# Altium schematic symbol library ic-interface.SchLib: 45 symbols
Pins are listed as number, name and electrical type; pins without a type are passive.

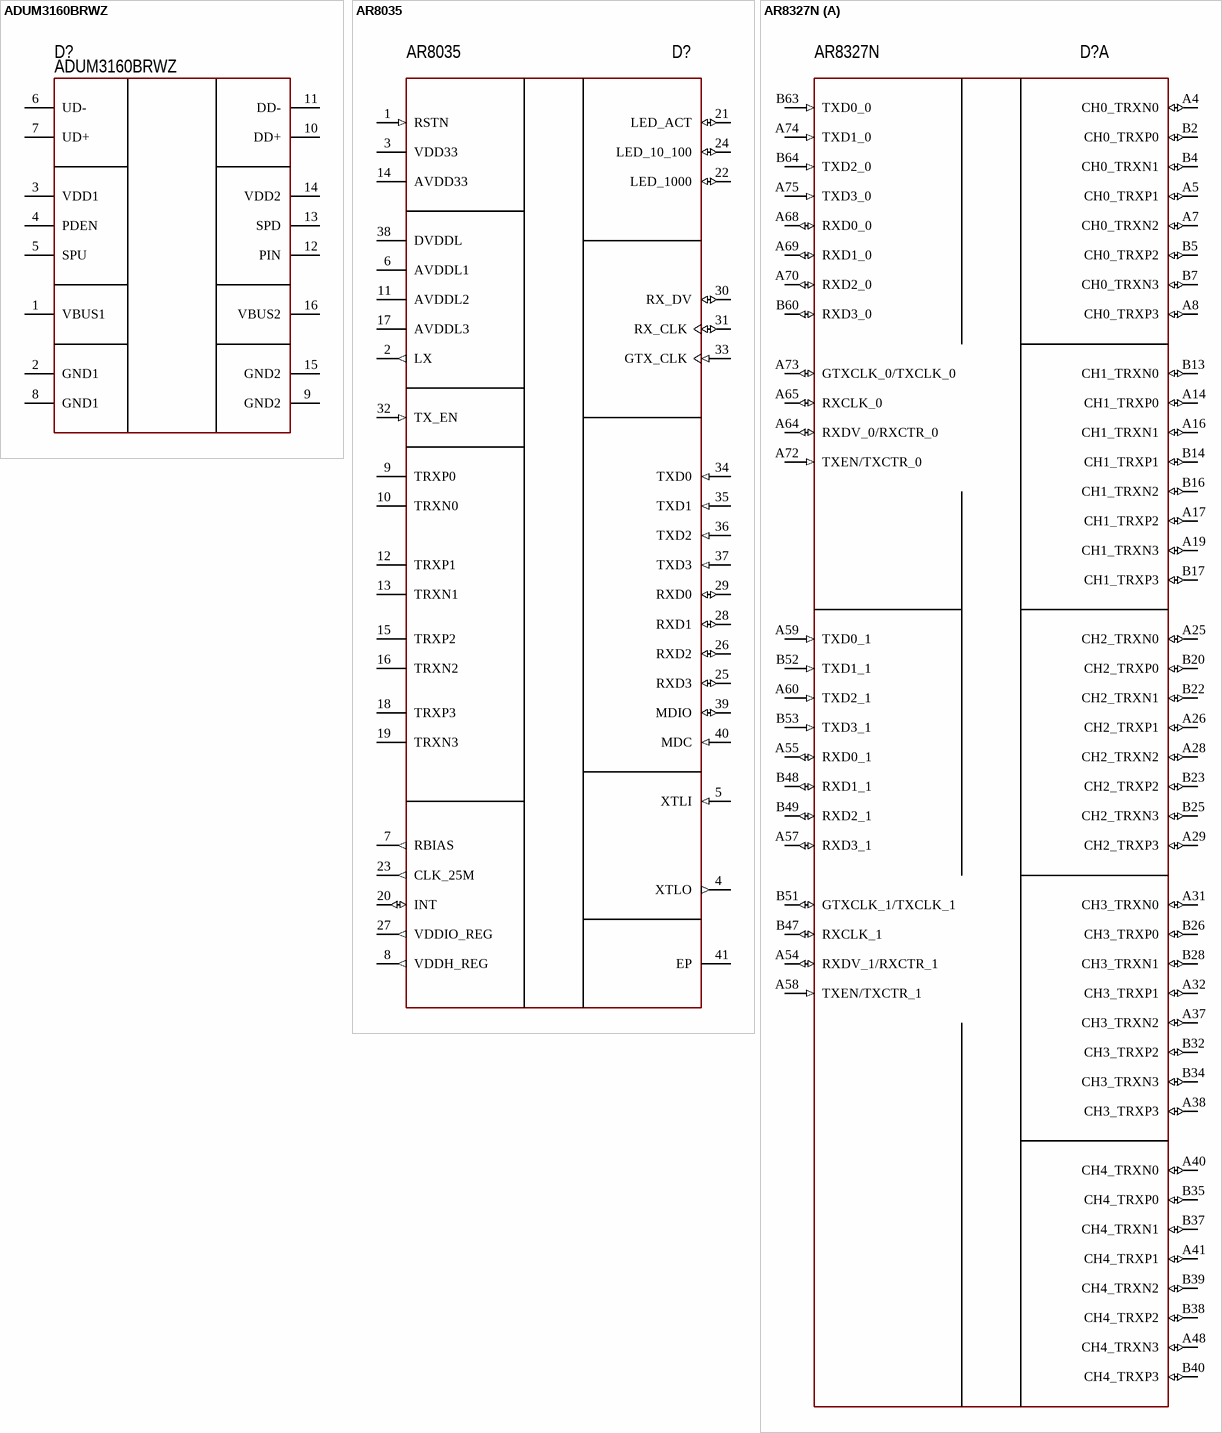
[diagram p0: symbols ADUM3160BRWZ to AR8327N]

## ADUM3160BRWZ
designator D?  PartNumber: ADUM3160BRWZ
USB isolator; Manufacturer: Texas Instruments; ValueManufacturerPartNumber: IC USB isolator, 12Mbps, 2500Vrms, 3...5.5V, -40...+125°C, 16-TSSOP; Supply: 3...5.5V; DataRate: 12Mbps; Isolation: 2500Vrms; HelpURL: https://www.digikey.com/product-detail/en/analog-devices-inc/ADUM3160BRWZ-RL/ADUM3160BRWZ-RLCT-ND/3897186; Package: 16-TSSOP; ComponentType: IC USB isolator; Temperature: -40...+125°C
footprint 16-TSSOP (pitch 1.27 mm)
pins: 1 VBUS1, 2 GND1, 3 VDD1, 4 PDEN, 5 SPU, 6 UD-, 7 UD+, 8 GND1, 9 GND2, 10 DD+, 11 DD-, 12 PIN, 13 SPD, 14 VDD2, 15 GND2, 16 VBUS2

## AR8035
designator D?  PartNumber: AR8035
Ethernet; Manufacturer: Atheros; ValueManufacturerPartNumber: IC ethernet transceiver, 10/100/1000 Mbps, MII, RMII, 3...3.6V, -40...+85°C, 40-QFN; Supply: 3...3.6V; DataRate: 10/100/1000 Mbps; Protocol: MII, RMII; HelpURL: https://datasheet.octopart.com/AR8035-AL1B-Qualcomm-datasheet-13029019.pdf; Package: 40-QFN; ComponentType: IC ethernet transceiver; Temperature: -40...+85°C
footprint 40-QFN (5x5) (5x5 mm, pitch 0.4 mm, power pad)
pins: 1 RSTN (in), 2 LX (out), 3 VDD33 (power), 4 XTLO (out), 5 XTLI (in), 6 AVDDL1 (power), 7 RBIAS (out), 8 VDDH_REG (out), 9 TRXP0, 10 TRXN0, 11 AVDDL2 (power), 12 TRXP1, 13 TRXN1, 14 AVDD33 (power), 15 TRXP2, 16 TRXN2, 17 AVDDL3 (power), 18 TRXP3, 19 TRXN3, 20 INT (io), 21 LED_ACT (io), 22 LED_1000 (io), 23 CLK_25M (out), 24 LED_10_100 (io), 25 RXD3 (io), 26 RXD2 (io), 27 VDDIO_REG (out), 28 RXD1 (io), 29 RXD0 (io), 30 RX_DV (io), 31 RX_CLK (io), 32 TX_EN (in), 33 GTX_CLK (in), 34 TXD0 (in), 35 TXD1 (in), 36 TXD2 (in), 37 TXD3 (in), 38 DVDDL (power), 39 MDIO (io), 40 MDC (in), 41 EP (power)

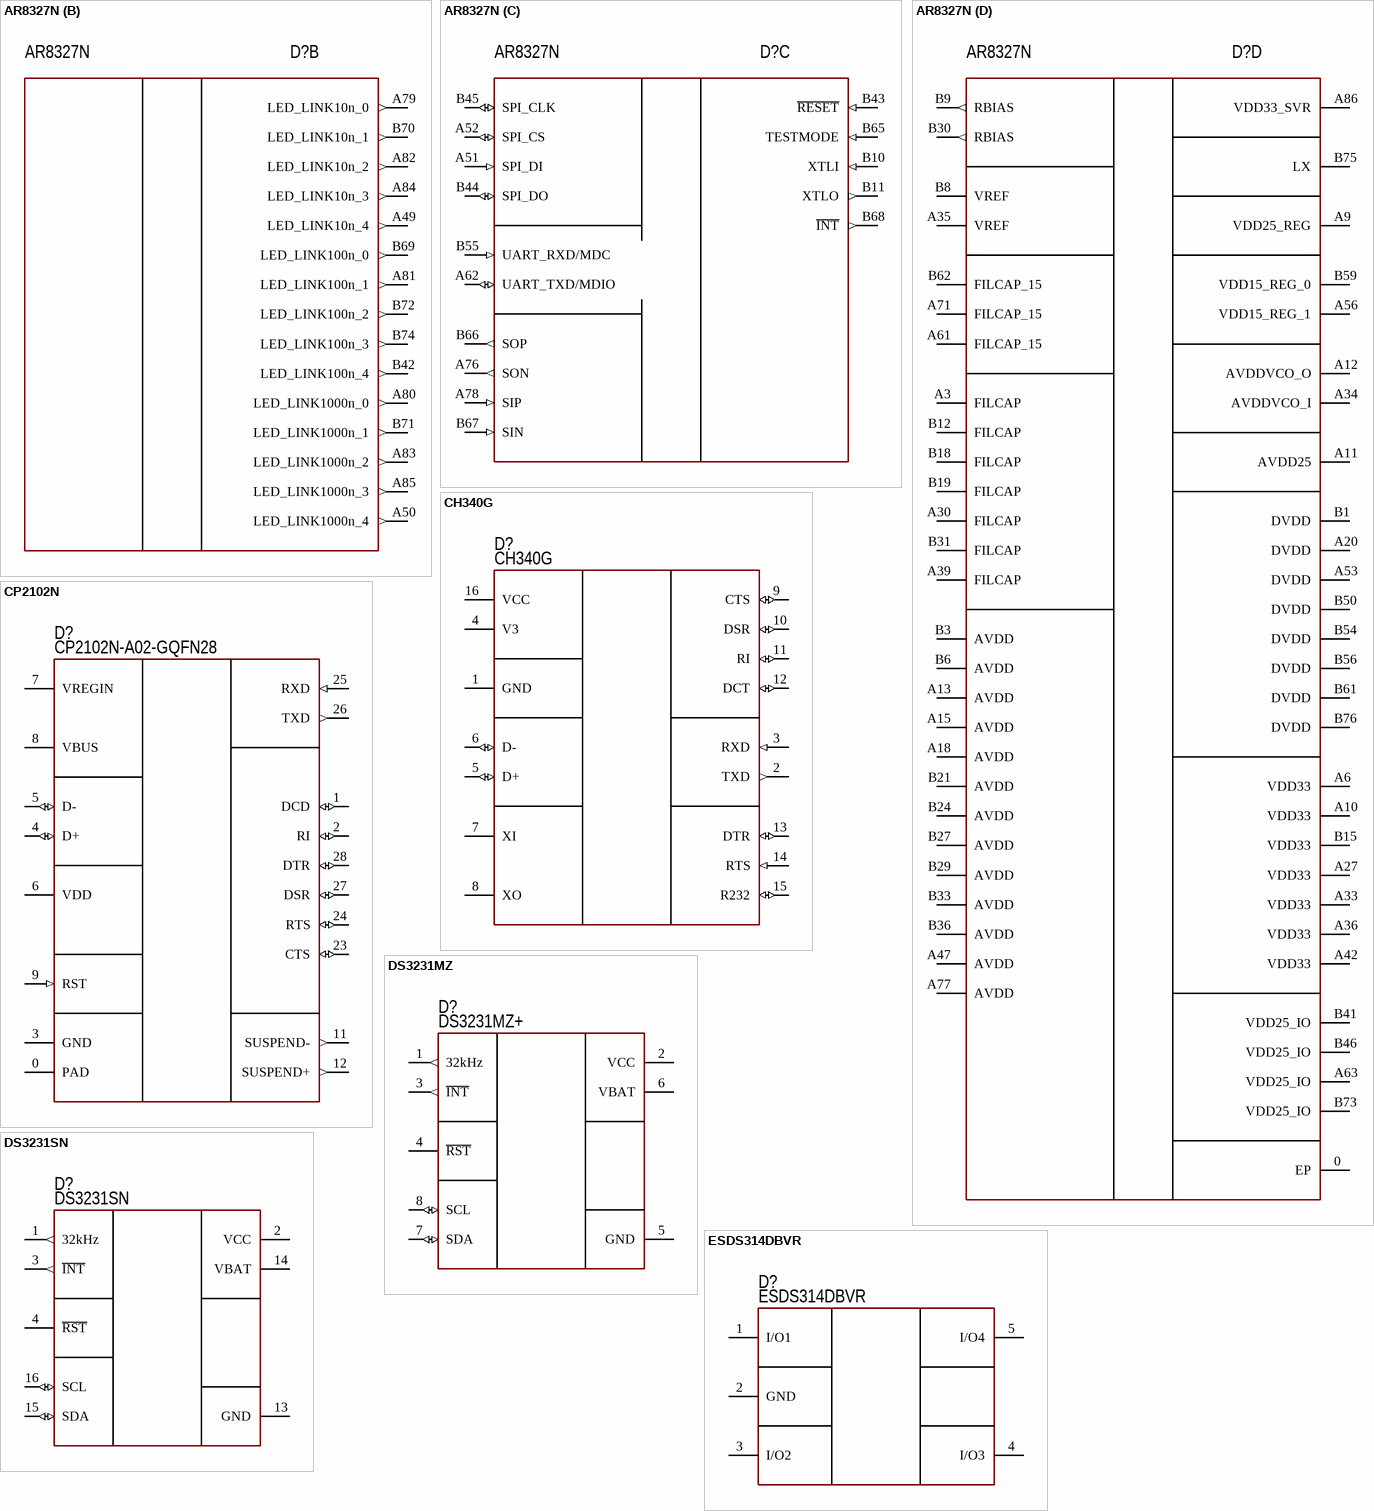
[diagram p1: symbols AR8327N to ESDS314DBVR]

## AR8327N
designator D?  PartNumber: AR8327N
Ethernet; Manufacturer: Atheros; ValueManufacturerPartNumber: IC ethernet transceiver, 10/100/1000 Mbps, MII, RMII, 3...3.6V, -40...+85°C, 148-DRQFN; Supply: 3...3.6V; DataRate: 10/100/1000 Mbps; Protocol: MII, RMII; Package: 148-DRQFN; ComponentType: IC ethernet transceiver; Temperature: -40...+85°C
footprint 148-DRQFN (pitch 0.5 mm)
part A pins: A4 CH0_TRXN0 (io), A5 CH0_TRXP1 (io), A7 CH0_TRXN2 (io), A8 CH0_TRXP3 (io), A14 CH1_TRXP0 (io), A16 CH1_TRXN1 (io), A17 CH1_TRXP2 (io), A19 CH1_TRXN3 (io), A25 CH2_TRXN0 (io), A26 CH2_TRXP1 (io), A28 CH2_TRXN2 (io), A29 CH2_TRXP3 (io), A31 CH3_TRXN0 (io), A32 CH3_TRXP1 (io), A37 CH3_TRXN2 (io), A38 CH3_TRXP3 (io), A40 CH4_TRXN0 (io), A41 CH4_TRXP1 (io), A48 CH4_TRXN3 (io), A54 RXDV_1/RXCTR_1 (io), A55 RXD0_1 (io), A57 RXD3_1 (io), A58 TXEN/TXCTR_1 (in), A59 TXD0_1 (in), A60 TXD2_1 (in), A64 RXDV_0/RXCTR_0 (io), A65 RXCLK_0 (io), A68 RXD0_0 (io), A69 RXD1_0 (io), A70 RXD2_0 (io), A72 TXEN/TXCTR_0  (in), A73 GTXCLK_0/TXCLK_0 (io), A74 TXD1_0 (in), A75 TXD3_0 (in), B2 CH0_TRXP0 (io), B4 CH0_TRXN1 (io), B5 CH0_TRXP2 (io), B7 CH0_TRXN3 (io), B13 CH1_TRXN0 (io), B14 CH1_TRXP1 (io), B16 CH1_TRXN2 (io), B17 CH1_TRXP3 (io), B20 CH2_TRXP0 (io), B22 CH2_TRXN1 (io), B23 CH2_TRXP2 (io), B25 CH2_TRXN3 (io), B26 CH3_TRXP0 (io), B28 CH3_TRXN1 (io), B32 CH3_TRXP2 (io), B34 CH3_TRXN3 (io), B35 CH4_TRXP0 (io), B37 CH4_TRXN1 (io), B38 CH4_TRXP2 (io), B39 CH4_TRXN2 (io), B40 CH4_TRXP3 (io), B47 RXCLK_1 (io), B48 RXD1_1 (io), B49 RXD2_1 (io), B51 GTXCLK_1/TXCLK_1 (io), B52 TXD1_1 (in), B53 TXD3_1 (in), B60 RXD3_0 (io), B63 TXD0_0 (in), B64 TXD2_0 (in)
part B pins: A49 LED_LINK10n_4 (out), A50 LED_LINK1000n_4 (out), A79 LED_LINK10n_0 (out), A80 LED_LINK1000n_0 (out), A81 LED_LINK100n_1 (out), A82 LED_LINK10n_2 (out), A83 LED_LINK1000n_2 (out), A84 LED_LINK10n_3 (out), A85 LED_LINK1000n_3 (out), B42 LED_LINK100n_4 (out), B69 LED_LINK100n_0 (out), B70 LED_LINK10n_1 (out), B71 LED_LINK1000n_1 (out), B72 LED_LINK100n_2 (out), B74 LED_LINK100n_3 (out)
part C pins: A51 SPI_DI (in), A52 SPI_CS (io), A62 UART_TXD/MDIO (io), A76 SON (out), A78 SIP (in), B10 XTLI (in), B11 XTLO (out), B43 ~{RESET} (in), B44 SPI_DO (io), B45 SPI_CLK (io), B55 UART_RXD/MDC (in), B65 TESTMODE (in), B66 SOP (out), B67 SIN (in), B68 ~{INT} (out)
part D pins: 0 EP (power), A3 FILCAP, A6 VDD33 (power), A9 VDD25_REG (power), A10 VDD33 (power), A11 AVDD25 (power), A12 AVDDVCO_O (power), A13 AVDD (power), A15 AVDD (power), A18 AVDD (power), A20 DVDD (power), A27 VDD33 (power), A30 FILCAP, A33 VDD33 (power), A34 AVDDVCO_I (power), A35 VREF, A36 VDD33 (power), A39 FILCAP, A42 VDD33 (power), A47 AVDD (power), A53 DVDD (power), A56 VDD15_REG_1 (power), A61 FILCAP_15 (power), A63 VDD25_IO (power), A71 FILCAP_15 (power), A77 AVDD (power), A86 VDD33_SVR (power), B1 DVDD (power), B3 AVDD (power), B6 AVDD (power), B8 VREF, B9 RBIAS (out), B12 FILCAP, B15 VDD33 (power), B18 FILCAP, B19 FILCAP, B21 AVDD (power), B24 AVDD (power), B27 AVDD (power), B29 AVDD (power), B30 RBIAS (out), B31 FILCAP, B33 AVDD (power), B36 AVDD (power), B41 VDD25_IO (power), B46 VDD25_IO (power), B50 DVDD (power), B54 DVDD (power), B56 DVDD (power), B59 VDD15_REG_0 (power), B61 DVDD (power), B62 FILCAP_15 (power), B73 VDD25_IO (power), B75 LX, B76 DVDD (power)

## CH340G
designator D?  PartNumber: CH340G
USB-to-UART; Manufacturer: WCH(Jiangsu Qin Heng); ValueManufacturerPartNumber: IC usb-to-uart bridge, USB2.0, 3...3.6V, -40...+85°C, 16- SOP; Supply: 3...3.6V; HelpURL: https://lcsc.com/product-detail/USB-ICs_WCH-Jiangsu-Qin-Heng-CH340G_C14267.html; Package: 16- SOP; ComponentType: IC usb-to-uart bridge; Temperature: -40...+85°C; Standard: USB2.0
footprint 16-SOP (pitch 1.27 mm)
pins: 1 GND, 2 TXD (out), 3 RXD (in), 4 V3, 5 D+ (io), 6 D- (io), 7 XI, 8 XO, 9 CTS (io), 10 DSR (io), 11 RI (io), 12 DCT (io), 13 DTR (io), 14 RTS (in), 15 R232 (io), 16 VCC (power)

## CP2102N
designator D?  PartNumber: CP2102N-A02-GQFN28
USB-to-UART; Manufacturer: Silicon Labs; ValueManufacturerPartNumber: IC usb-to-uart bridge, USB2.0, 3...3.6V, -40...+85°C, 28-VFQFN; Supply: 3...3.6V; HelpURL: https://www.digikey.com/product-detail/en/silicon-labs/CP2102N-A02-GQFN28/336-5889-ND/9863477; Package: 28-VFQFN; ComponentType: IC usb-to-uart bridge; Temperature: -40...+85°C; Standard: USB2.0
footprint 28-QFN (5x5) (5x5 mm, pitch 0.5 mm, power pad)
pins: 0 PAD, 1 DCD (io), 2 RI (io), 3 GND, 4 D+ (io), 5 D- (io), 6 VDD, 7 VREGIN, 8 VBUS, 9 RST (in), 11 SUSPEND- (out), 12 SUSPEND+ (out), 23 CTS (io), 24 RTS (io), 25 RXD (in), 26 TXD (out), 27 DSR (io), 28 DTR (io)

## DS3231MZ
designator D?  PartNumber: DS3231MZ+
Real Time Clocks; Manufacturer: Maxim; Supply: 2.3...5.5V; HelpURL: https://www.digikey.com/product-detail/en/maxim-integrated/DS3231MZ/DS3231MZ-ND/2754396; Package: 8-SOIC; ComponentType: Real Time Clocks; ValueManufacturerPartNumber: =ComponentType+', '+DataRate+', '+Isolation+', '+Supply+', '+Temperature+', '+Package; Temperature: -40...+85°C
footprint 8-SOIC (pitch 1.27 mm)
pins: 1 32kHz (out), 2 VCC, 3 ~{INT} (out), 4 ~{RST}, 5 GND, 6 VBAT, 7 SDA (io), 8 SCL (io)

## DS3231SN
designator D?  PartNumber: DS3231SN
Real Time Clocks; Manufacturer: Maxim; Supply: 2.3...5.5V; HelpURL: https://www.digikey.com/product-detail/en/maxim-integrated/DS3231SN-T-R/DS3231SN-T-RCT-ND/3894827; Package: 16-TSSOP; ComponentType: Real Time Clocks; ValueManufacturerPartNumber: =ComponentType+', '+DataRate+', '+Isolation+', '+Supply+', '+Temperature+', '+Package; Temperature: -40...+85°C
footprint 16-TSSOP (pitch 1.27 mm)
pins: 1 32kHz (out), 2 VCC, 3 ~{INT} (out), 4 ~{RST}, 13 GND, 14 VBAT, 15 SDA (io), 16 SCL (io)

## ESDS314DBVR
designator D?  PartNumber: ESDS314DBVR
ESD protection; Manufacturer: Texas Instruments; HelpURL: https://www.ti.com/lit/ds/symlink/esds312.pdf?HQS=dis-mous-null-mousermode-dsf-pf-null-wwe&ts=1699065996877&ref_url=https%253A%252F%252Feu.mouser.com%252F; Package: SOT23-5; ComponentType: ESD protection; ValueManufacturerPartNumber: =ComponentType+', '+DataRate+', '+Isolation+', '+Supply+', '+Temperature+', '+Package; Temperature: -40...+125°C
footprint SOT23-5 (pitch 0.95 mm)
pins: 1 I/O1, 2 GND (power), 3 I/O2, 4 I/O3, 5 I/O4

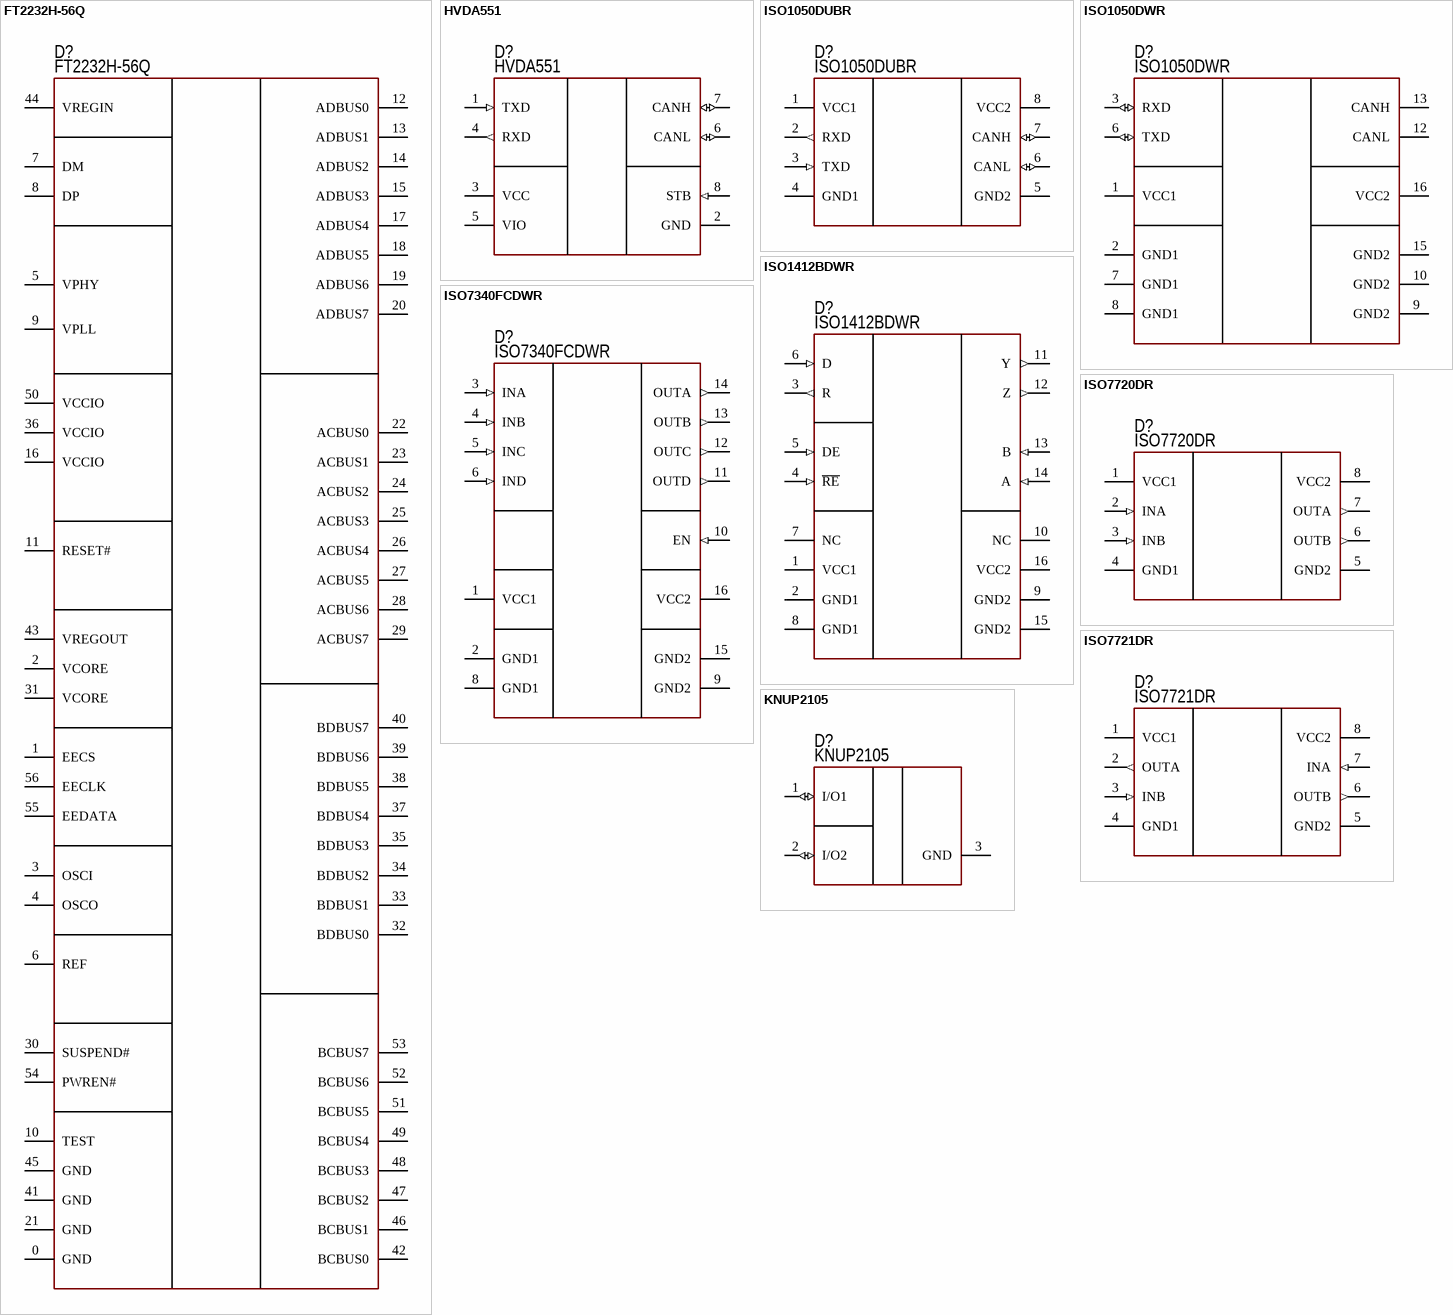
[diagram p2: symbols FT2232H-56Q to KNUP2105]

## FT2232H-56Q
designator D?  PartNumber: FT2232H-56Q
USB2.0-to-UART; Manufacturer: FTDI; ValueManufacturerPartNumber: IC usb-to-uart bridge, USB2.0, 3.3V, -40...+85°C, 56-VQFN; Supply: 3.3V; HelpURL: https://www.digikey.com/product-detail/en/texas-instruments/LMV321IDBVR/296-9567-1-ND/379849; Package: 56-VQFN; ComponentType: IC usb-to-uart bridge; Temperature: -40...+85°C; Standard: USB2.0
footprint 56-QFN (8x8 mm, pitch 0.5 mm, power pad)
pins: 0 GND, 1 EECS, 2 VCORE, 3 OSCI, 4 OSCO, 5 VPHY, 6 REF, 7 DM, 8 DP, 9 VPLL, 10 TEST, 11 RESET#, 12 ADBUS0, 13 ADBUS1, 14 ADBUS2, 15 ADBUS3, 16 VCCIO, 17 ADBUS4, 18 ADBUS5, 19 ADBUS6, 20 ADBUS7, 21 GND, 22 ACBUS0, 23 ACBUS1, 24 ACBUS2, 25 ACBUS3, 26 ACBUS4, 27 ACBUS5, 28 ACBUS6, 29 ACBUS7, 30 SUSPEND#, 31 VCORE, 32 BDBUS0, 33 BDBUS1, 34 BDBUS2, 35 BDBUS3, 36 VCCIO, 37 BDBUS4, 38 BDBUS5, 39 BDBUS6, 40 BDBUS7, 41 GND, 42 BCBUS0, 43 VREGOUT, 44 VREGIN, 45 GND, 46 BCBUS1, 47 BCBUS2, 48 BCBUS3, 49 BCBUS4, 50 VCCIO, 51 BCBUS5, 52 BCBUS6, 53 BCBUS7, 54 PWREN#, 55 EEDATA, 56 EECLK

## HVDA551
designator D?  PartNumber: HVDA551
CAN; Manufacturer: Texas Instruments; ValueManufacturerPartNumber: IC CAN transceiver, 1Mbps, Half-duplex, 5V, -40...+125°C, 8-SOIC; Supply: 5V; DataRate: 1Mbps; TypeDuplex: Half-duplex; HelpURL: https://datasheet.lcsc.com/szlcsc/1810181617_Texas-Instruments-HVDA553QDRQ1_C209780.pdf; Package: 8-SOIC; ComponentType: IC CAN transceiver; Temperature: -40...+125°C
footprint 8-SOIC (pitch 1.27 mm)
pins: 1 TXD (in), 2 GND, 3 VCC, 4 RXD (out), 5 VIO, 6 CANL (io), 7 CANH (io), 8 STB (in)

## ISO1050DUBR
designator D?  PartNumber: ISO1050DUBR
CAN isolator; Manufacturer: Texas Instruments; ValueManufacturerPartNumber: IC CAN isolator, 1Mbps, Half-duplex, 3...5.5V, -55...+105°C, 8-SOP; Supply: 3...5.5V; DataRate: 1Mbps; TypeDuplex: Half-duplex; HelpURL: https://www.digikey.com/product-detail/en/texas-instruments/ISO1050DUBR/296-24818-1-ND/2094658; Package: 8-SOP; ComponentType: IC CAN isolator; Temperature: -55...+105°C
footprint 8-SOP (pitch 2.54 mm)
pins: 1 VCC1, 2 RXD (out), 3 TXD (in), 4 GND1, 5 GND2, 6 CANL (io), 7 CANH (io), 8 VCC2

## ISO1050DWR
designator D?  PartNumber: ISO1050DWR
CAN isolator; Manufacturer: Texas Instruments; ValueManufacturerPartNumber: IC CAN isolator, 1Mbps, Half-duplex, 3...5.5V, -55...+105°C, 16-SOIC; Supply: 3...5.5V; DataRate: 1Mbps; TypeDuplex: Half-duplex; HelpURL: https://www.digikey.com/product-detail/en/texas-instruments/ISO1050DWR/296-41267-1-ND/5222731; Package: 16-SOIC; ComponentType: IC CAN isolator; Temperature: -55...+105°C
footprint 16-TSSOP (pitch 1.27 mm)
pins: 1 VCC1, 2 GND1, 3 RXD (io), 6 TXD (io), 7 GND1, 8 GND1, 9 GND2, 10 GND2, 12 CANL, 13 CANH, 15 GND2, 16 VCC2

## ISO1412BDWR
designator D?  PartNumber: ISO1412BDWR
RS485 Isolated; Manufacturer: Texas Instruments; ValueManufacturerPartNumber: IC RS485 transceiver, 500Kbps, Full-duplex, 1.71...5.5V, -40...+125°C, 16-SOIC; Supply: 1.71...5.5V; DataRate: 500Kbps; TypeDuplex: Full-duplex; HelpURL: https://www.ti.com/lit/gpn/iso1412; Package: 16-SOIC; ComponentType: IC RS485 transceiver; Temperature: -40...+125°C
footprint 16-SOIC (ISOLATION) (pitch 1.27 mm)
pins: 1 VCC1 (power), 2 GND1 (power), 3 R (out), 4 ~{RE} (in), 5 DE (in), 6 D (in), 7 NC, 8 GND1 (power), 9 GND2 (power), 10 NC, 11 Y (out), 12 Z (out), 13 B (in), 14 A (in), 15 GND2 (power), 16 VCC2 (power)

## ISO7340FCDWR
designator D?  PartNumber: ISO7340FCDWR
Digital isolator; Manufacturer: Texas Instruments; ValueManufacturerPartNumber: IC digital isolator, 25Mbps, 3000Vrms, 3...5.5V, -40...+125°C, 16-TSSOP; Supply: 3...5.5V; DataRate: 25Mbps; Isolation: 3000Vrms; HelpURL: https://www.digikey.com/product-detail/en/texas-instruments/LMV321IDBVR/296-9567-1-ND/379849; Package: 16-TSSOP; ComponentType: IC digital isolator; Temperature: -40...+125°C
footprint 16-TSSOP (pitch 1.27 mm)
pins: 1 VCC1 (power), 2 GND1 (power), 3 INA (in), 4 INB (in), 5 INC (in), 6 IND (in), 8 GND1 (power), 9 GND2 (power), 10 EN (in), 11 OUTD (out), 12 OUTC (out), 13 OUTB (out), 14 OUTA (out), 15 GND2 (power), 16 VCC2 (power)

## ISO7720DR
designator D?  PartNumber: ISO7720DR
Digital isolator 2/0; Manufacturer: Texas Instruments; ValueManufacturerPartNumber: IC digital isolator, 100Mbps, 3000Vrms, 2.25...5.5V, -55...+125°C, 8-SOIC; Supply: 2.25...5.5V; DataRate: 100Mbps; Isolation: 3000Vrms; HelpURL: https://www.digikey.com/product-detail/en/texas-instruments/ISO7720DR/296-47780-1-ND/8133129; Package: 8-SOIC; ComponentType: IC digital isolator; Temperature: -55...+125°C
footprint 8-SOIC (pitch 1.27 mm)
pins: 1 VCC1, 2 INA (in), 3 INB (in), 4 GND1, 5 GND2, 6 OUTB (out), 7 OUTA (out), 8 VCC2

## ISO7721DR
designator D?  PartNumber: ISO7721DR
Digital isolator 1/1; Manufacturer: Texas Instruments; ValueManufacturerPartNumber: IC digital isolator, 100Mbps, 3000Vrms, 2.25...5.5V, -55...+125°C, 8-SOIC; Supply: 2.25...5.5V; DataRate: 100Mbps; Isolation: 3000Vrms; HelpURL: https://www.digikey.com/product-detail/en/texas-instruments/ISO7721DR/296-48296-1-ND/8347715; Package: 8-SOIC; ComponentType: IC digital isolator; Temperature: -55...+125°C
footprint 8-SOIC (pitch 1.27 mm)
pins: 1 VCC1, 2 OUTA (out), 3 INB (in), 4 GND1, 5 GND2, 6 OUTB (out), 7 INA (in), 8 VCC2

## KNUP2105
designator D?  PartNumber: KNUP2105
ESD protection; Manufacturer: KUU Semiconductor; Isolation: 30kV; HelpURL: https://datasheet.lcsc.com/lcsc/2110121230_KUU-KNUP2105_C2904805.pdf; Package: SOT23; ComponentType: ESD protection; ValueManufacturerPartNumber: =ComponentType+', '+DataRate+', '+Isolation+', '+Supply+', '+Temperature+', '+Package; Temperature: -55...+125°C
footprint SOT23
pins: 1 I/O1 (io), 2 I/O2 (io), 3 GND (power)

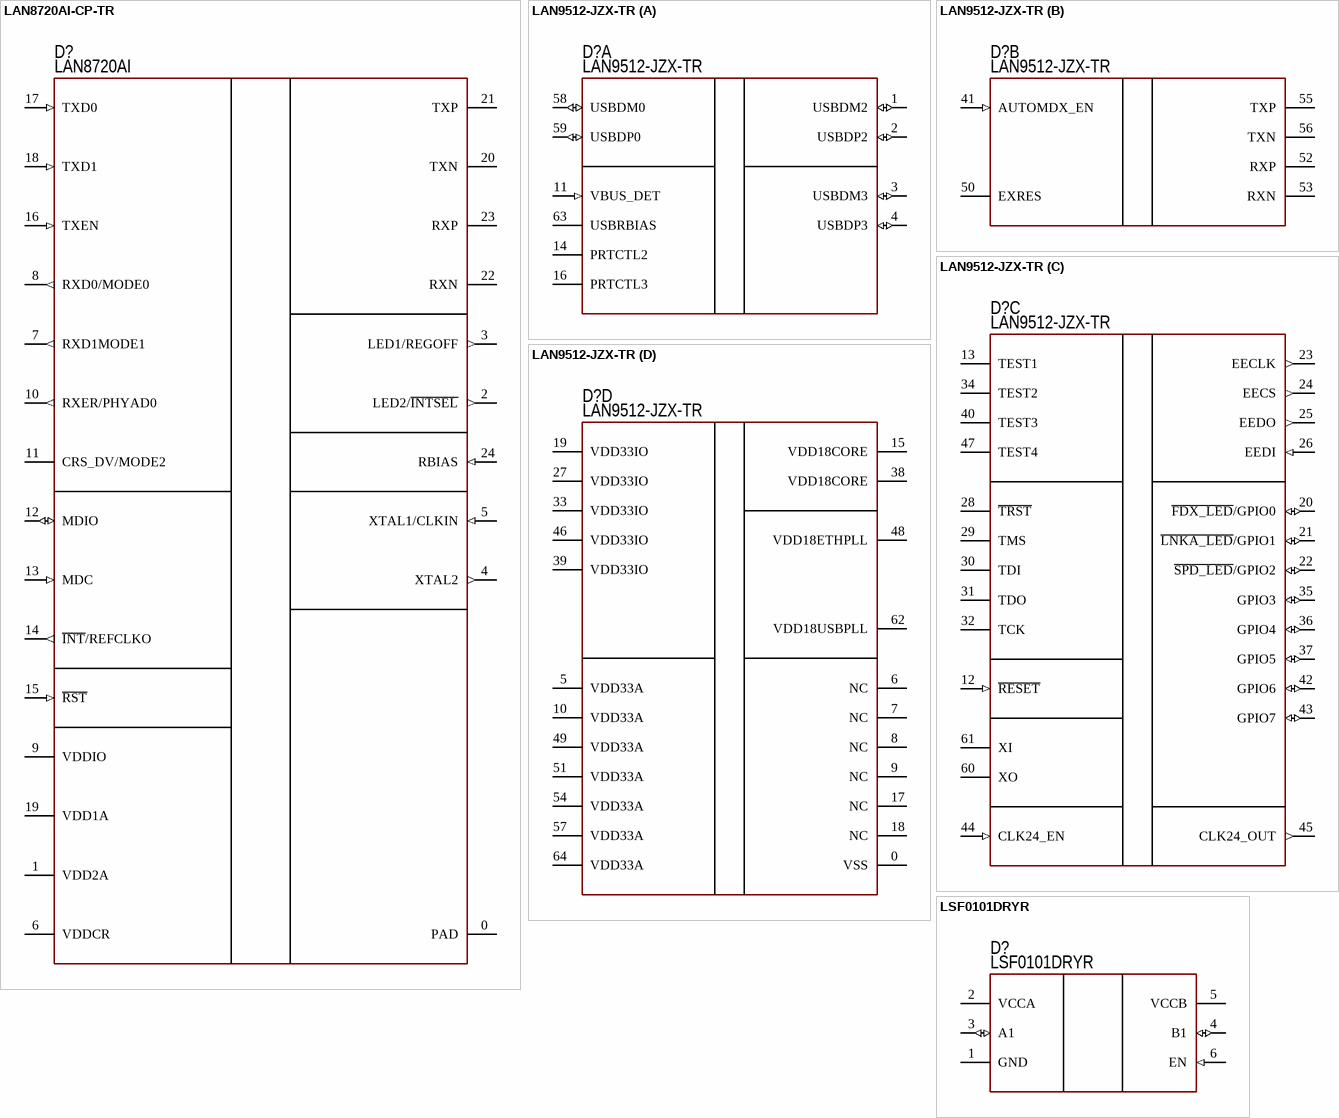
[diagram p3: symbols LAN8720AI-CP-TR to LSF0101DRYR]

## LAN8720AI-CP-TR
designator D?  PartNumber: LAN8720AI
Ethernet; Manufacturer: Microchip; ValueManufacturerPartNumber: IC ethernet transceiver, 10/100 Mbps, RMII, 3...3.6V, -40...+85°C, 24-QFN; Supply: 3...3.6V; DataRate: 10/100 Mbps; Protocol: RMII; HelpURL: https://datasheet.lcsc.com/lcsc/1809300309_Microchip-Tech-LAN8720AI-CP-TR_C17146.pdf; Package: 24-QFN; ComponentType: IC ethernet transceiver; Temperature: -40...+85°C
footprint 24-QFN (4X4) (4x4 mm, pitch 0.5 mm, power pad)
pins: 0 PAD (power), 1 VDD2A (power), 2 LED2/~{INTSEL} (out), 3 LED1/REGOFF (out), 4 XTAL2 (out), 5 XTAL1/CLKIN (in), 6 VDDCR (power), 7 RXD1MODE1 (out), 8 RXD0/MODE0 (out), 9 VDDIO (power), 10 RXER/PHYAD0 (out), 11 CRS_DV/MODE2, 12 MDIO (io), 13 MDC (in), 14 ~{INT}/REFCLKO (out), 15 ~{RST} (in), 16 TXEN (in), 17 TXD0 (in), 18 TXD1 (in), 19 VDD1A (power), 20 TXN, 21 TXP, 22 RXN, 23 RXP, 24 RBIAS (in)

## LAN9512-JZX-TR
designator D?  PartNumber: LAN9512-JZX-TR
USB/Ethernet Hub; Manufacturer: Microchip; ValueManufacturerPartNumber: USB/Ethernet Interface IC, 480 Mb/s, Ethernet, USB, 1.8...3.6V, 0...+70°C, QFN-64; Supply: 1.8...3.6V; DataRate: 480 Mb/s; Protocol: Ethernet, USB; HelpURL: https://www.mouser.ee/datasheet/2/268/00002304A-3443149.pdf; Package: QFN-64; ComponentType: USB/Ethernet Interface IC; Temperature: 0...+70°C
footprint 64-QFN (9x9 mm, pitch 0.5 mm, power pad)
part A pins: 1 USBDM2 (io), 2 USBDP2 (io), 3 USBDM3 (io), 4 USBDP3 (io), 11 VBUS_DET (in), 14 PRTCTL2, 16 PRTCTL3, 58 USBDM0 (io), 59 USBDP0 (io), 63 USBRBIAS
part B pins: 41 AUTOMDX_EN (in), 50 EXRES, 52 RXP, 53 RXN, 55 TXP, 56 TXN
part C pins: 12 ~{RESET} (in), 13 TEST1, 20 ~{FDX_LED}/GPIO0 (io), 21 ~{LNKA_LED}/GPIO1 (io), 22 ~{SPD_LED}/GPIO2 (io), 23 EECLK (out), 24 EECS (out), 25 EEDO (out), 26 EEDI (in), 28 ~{TRST}, 29 TMS, 30 TDI, 31 TDO, 32 TCK, 34 TEST2, 35 GPIO3 (io), 36 GPIO4 (io), 37 GPIO5 (io), 40 TEST3, 42 GPIO6 (io), 43 GPIO7 (io), 44 CLK24_EN (in), 45 CLK24_OUT (out), 47 TEST4, 60 XO, 61 XI
part D pins: 0 VSS (power), 5 VDD33A (power), 6 NC, 7 NC, 8 NC, 9 NC, 10 VDD33A (power), 15 VDD18CORE (power), 17 NC, 18 NC, 19 VDD33IO (power), 27 VDD33IO (power), 33 VDD33IO (power), 38 VDD18CORE (power), 39 VDD33IO (power), 46 VDD33IO (power), 48 VDD18ETHPLL (power), 49 VDD33A (power), 51 VDD33A (power), 54 VDD33A (power), 57 VDD33A (power), 62 VDD18USBPLL (power), 64 VDD33A (power)

## LSF0101DRYR
designator D?  PartNumber: LSF0101DRYR
Level shifter; Manufacturer: Texas Instruments; ValueManufacturerPartNumber: IC Level Shifter, Bidirectional, 1...5V, -40...+85°C, 6-SON; Supply: 1...5V; ChannelType: Bidirectional; HelpURL: https://www.ti.com/lit/ds/symlink/lsf0101.pdf?ts=1723527375850; Package: 6-SON; ComponentType: IC Level Shifter; Temperature: -40...+85°C
footprint 6-SON (pitch 0.5 mm)
pins: 1 GND (power), 2 VCCA (power), 3 A1 (io), 4 B1 (io), 5 VCCB (power), 6 EN (in)

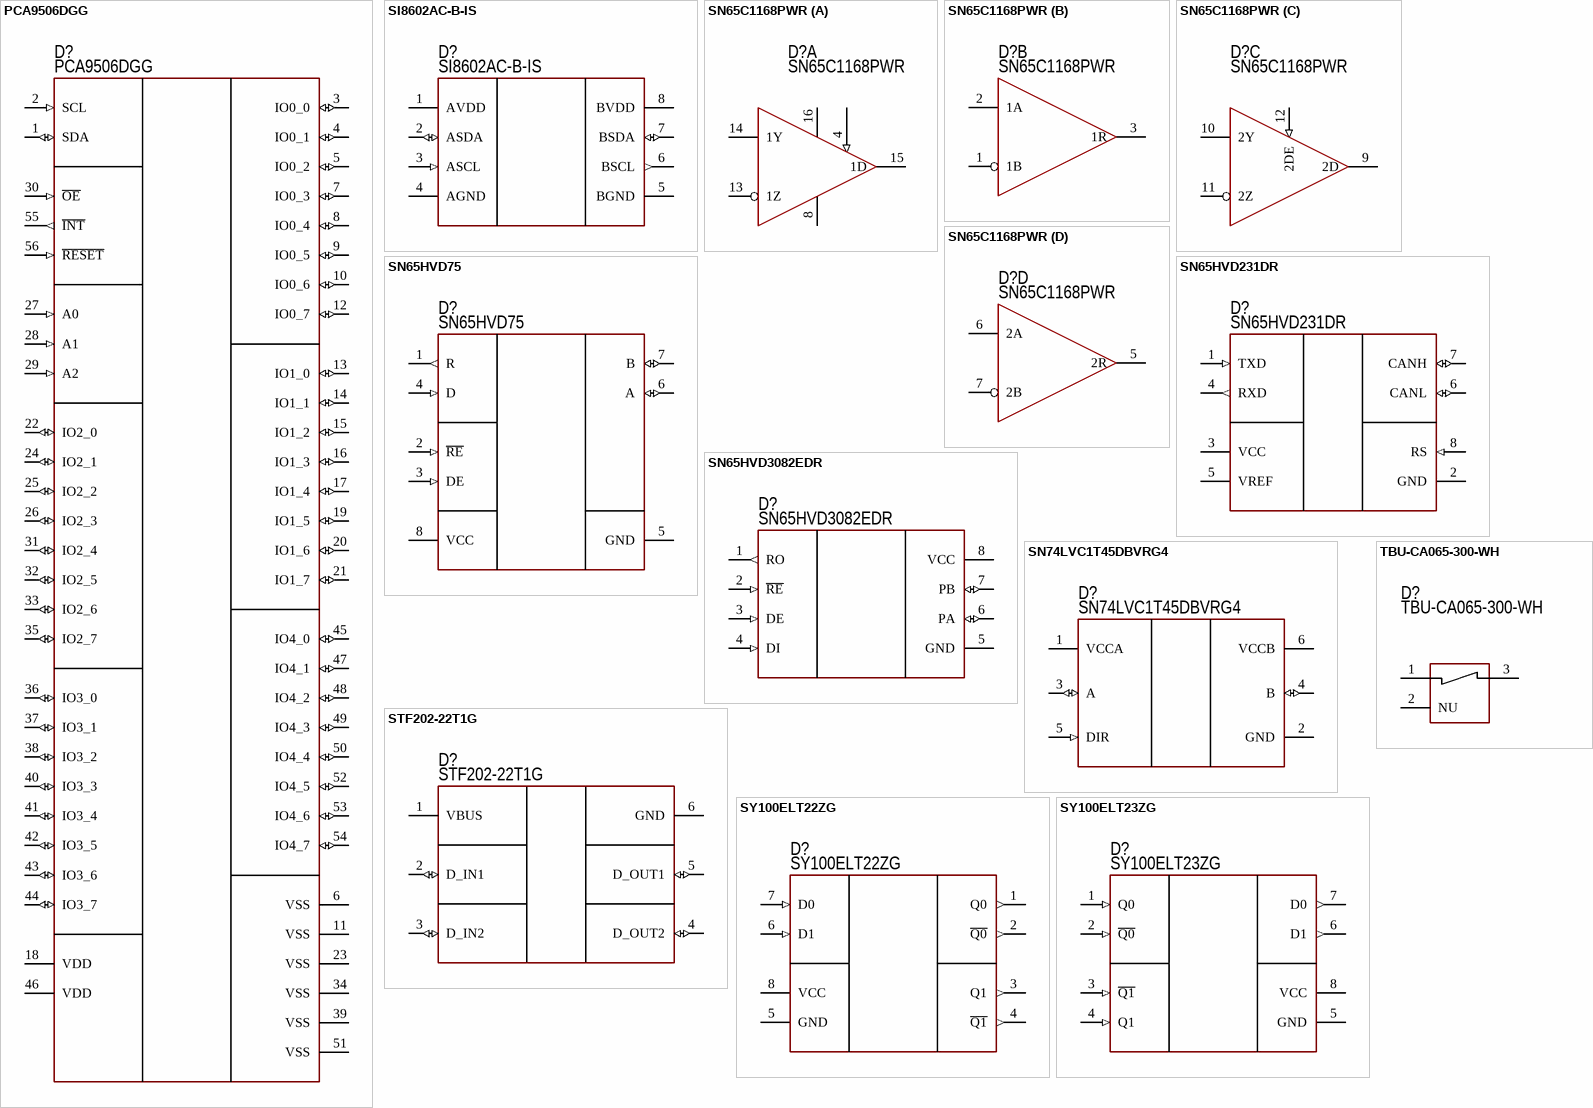
[diagram p4: symbols PCA9506DGG to TBU-CA065-300-WH]

## PCA9506DGG
designator D?  PartNumber: PCA9506DGG
I2C to Parallel Port Expander; Manufacturer: NXP; Supply: 2.3...5.5V; DataRate: 400-kHz; HelpURL: https://www.mouser.ee/datasheet/2/302/PCA9505_9506-2539769.pdf; Package: TSSOP-56; ComponentType: I2C to Parallel Port Expander; ValueManufacturerPartNumber: =ComponentType+', '+DataRate+', '+TypeDuplex+', '+Supply+', '+Temperature+', '+Package; Temperature: -40...+85°C
footprint 56-TSSOP (pitch 0.8 mm)
pins: 1 SDA (io), 2 SCL (in), 3 IO0_0 (io), 4 IO0_1 (io), 5 IO0_2 (io), 6 VSS (power), 7 IO0_3 (io), 8 IO0_4 (io), 9 IO0_5 (io), 10 IO0_6 (io), 11 VSS (power), 12 IO0_7 (io), 13 IO1_0 (io), 14 IO1_1 (io), 15 IO1_2 (io), 16 IO1_3 (io), 17 IO1_4 (io), 18 VDD (power), 19 IO1_5 (io), 20 IO1_6 (io), 21 IO1_7 (io), 22 IO2_0 (io), 23 VSS (power), 24 IO2_1 (io), 25 IO2_2 (io), 26 IO2_3 (io), 27 A0 (in), 28 A1 (in), 29 A2 (in), 30 ~{OE} (in), 31 IO2_4 (io), 32 IO2_5 (io), 33 IO2_6 (io), 34 VSS (power), 35 IO2_7 (io), 36 IO3_0 (io), 37 IO3_1 (io), 38 IO3_2 (io), 39 VSS (power), 40 IO3_3 (io), 41 IO3_4 (io), 42 IO3_5 (io), 43 IO3_6 (io), 44 IO3_7 (io), 45 IO4_0 (io), 46 VDD (power), 47 IO4_1 (io), 48 IO4_2 (io), 49 IO4_3 (io), 50 IO4_4 (io), 51 VSS (power), 52 IO4_5 (io), 53 IO4_6 (io), 54 IO4_7 (io), 55 ~{INT} (out), 56 ~{RESET} (in)

## SI8602AC-B-IS
designator D?  PartNumber: SI8602AC-B-IS
Digital isolator i2c; Manufacturer: Silicon Labs; ValueManufacturerPartNumber: IC digital isolator I2C, 1000 kHz, 3750Vrms, 3...5.5V, -40...+125°C, 8-SOIC; Supply: 3...5.5V; DataRate: 1000 kHz; Isolation: 3750Vrms; HelpURL: https://www.digikey.com/product-detail/en/silicon-labs/SI8602AC-B-IS/336-2050-5-ND/2623285; Package: 8-SOIC; ComponentType: IC digital isolator I2C; Temperature: -40...+125°C
footprint 8-SOIC (pitch 1.27 mm)
pins: 1 AVDD, 2 ASDA (io), 3 ASCL (in), 4 AGND, 5 BGND, 6 BSCL (out), 7 BSDA (io), 8 BVDD

## SN65C1168PWR
designator D?  PartNumber: SN65C1168PWR
RS422/RS485; Manufacturer: Texas Instruments; ValueManufacturerPartNumber: IC transceiver RS422/RS485, Full duplex, 4.5...5.5V, -40...+85°C, 16-TSSOP; Supply: 4.5...5.5V; ChannelType: Full duplex; HelpURL: https://www.digikey.com/product-detail/en/texas-instruments/SN65C1168PWR/296-14348-1-ND/530060; Package: 16-TSSOP; ComponentType: IC transceiver RS422/RS485; Temperature: -40...+85°C
footprint 16-TSSOP (pitch 1.27 mm)
part A pins: 4 1DE (in), 8 GND, 13 1Z, 14 1Y, 15 1D, 16 VCC
part B pins: 1 1B, 2 1A, 3 1R
part C pins: 9 2D, 10 2Y, 11 2Z, 12 2DE (in)
part D pins: 5 2R, 6 2A, 7 2B

## SN65HVD75
designator D?  PartNumber: SN65HVD75
RS485; Manufacturer: Texas Instruments; ValueManufacturerPartNumber: IC RS485 transceiver, 20 Mbps, Half-duplex, 4.5...5.5V, -40...+85°C, 8-SOIC; Supply: 4.5...5.5V; DataRate: 20 Mbps; TypeDuplex: Half-duplex; HelpURL: https://www.ti.com/lit/ds/symlink/sn65hvd78.pdf?ts=1662288365961&ref_url=https%253A%252F%252Fwww.google.com%252F; Package: 8-SOIC; ComponentType: IC RS485 transceiver; Temperature: -40...+85°C
footprint 8-SOIC (pitch 1.27 mm)
pins: 1 R (out), 2 ~{RE} (in), 3 DE (in), 4 D (in), 5 GND (power), 6 A (io), 7 B (io), 8 VCC (power)

## SN65HVD231DR
designator D?  PartNumber: SN65HVD231DR
CAN; Manufacturer: Texas Instruments; ValueManufacturerPartNumber: IC CAN transceiver, 1Mbps, Half-duplex, 3...3.6V, -40...+85°C, 8-SOIC; Supply: 3...3.6V; DataRate: 1Mbps; TypeDuplex: Half-duplex; HelpURL: https://www.digikey.com/product-detail/en/texas-instruments/SN65HVD231DR/296-26343-1-ND/2254977; Package: 8-SOIC; ComponentType: IC CAN transceiver; Temperature: -40...+85°C
footprint 8-SOIC (pitch 1.27 mm)
pins: 1 TXD (in), 2 GND, 3 VCC, 4 RXD (out), 5 VREF, 6 CANL (io), 7 CANH (io), 8 RS (in)

## SN65HVD3082EDR
designator D?  PartNumber: SN65HVD3082EDR
RS485; Manufacturer: Texas Instruments; ValueManufacturerPartNumber: IC RS485 transceiver, 200 kbps, Half-duplex, 4.5...5.5V, -40...+85°C, 8-SOIC; Supply: 4.5...5.5V; DataRate: 200 kbps; TypeDuplex: Half-duplex; HelpURL: https://www.digikey.com/product-detail/en/texas-instruments/SN65HVD3082EDR/296-31719-1-ND/3505195; Package: 8-SOIC; ComponentType: IC RS485 transceiver; Temperature: -40...+85°C
footprint 8-SOIC (pitch 1.27 mm)
pins: 1 RO (out), 2 ~{RE} (in), 3 DE (in), 4 DI (in), 5 GND (power), 6 PA (io), 7 PB (io), 8 VCC (power)

## SN74LVC1T45DBVRG4
designator D?  PartNumber: SN74LVC1T45DBVRG4
Level shifter; Manufacturer: Texas Instruments; ValueManufacturerPartNumber: IC Level Shifter, Bidirectional, 1.65...5.5V, -40...+85°C, SOT-23-6; Supply: 1.65...5.5V; ChannelType: Bidirectional; HelpURL: https://www.ti.com/lit/ds/symlink/sn74lvc1t45.pdf?ts=1728115806600; Package: SOT-23-6; ComponentType: IC Level Shifter; Temperature: -40...+85°C
footprint SOT23-6 (pitch 0.95 mm)
pins: 1 VCCA (power), 2 GND (power), 3 A (io), 4 B (io), 5 DIR (in), 6 VCCB (power)

## STF202-22T1G
designator D?  PartNumber: STF202-22T1G
Filter with ESD protection; Manufacturer: OnSemi; Isolation: 8kV; HelpURL: https://www.onsemi.com/pdf/datasheet/stf202-22t1-d.pdf; Package: TSOP−6; ComponentType: Filter with ESD; ValueManufacturerPartNumber: =ComponentType+', '+DataRate+', '+Isolation+', '+Supply+', '+Temperature+', '+Package; Temperature: -40...+125°C
footprint 6-TSOP (pitch 0.95 mm)
pins: 1 VBUS (power), 2 D_IN1 (io), 3 D_IN2 (io), 4 D_OUT2 (io), 5 D_OUT1 (io), 6 GND (power)

## SY100ELT22ZG
designator D?  PartNumber: SY100ELT22ZG
TTL-to-PECL; Manufacturer: Microchip Technology; ValueManufacturerPartNumber: IC TTL-to-PECL translator, Unidirectional, 4.5...5.5V, -40...+85°C, 8-SOIC; Supply: 4.5...5.5V; ChannelType: Unidirectional; HelpURL: https://www.digikey.com/product-detail/en/microchip-technology/SY100ELT22ZG-TR/SY100ELT22ZG-CT-ND/9923834; Package: 8-SOIC; ComponentType: IC TTL-to-PECL translator; Temperature: -40...+85°C
footprint 8-SOIC (pitch 1.27 mm)
pins: 1 Q0 (out), 2 ~{Q0} (out), 3 Q1 (out), 4 ~{Q1} (out), 5 GND (power), 6 D1 (in), 7 D0 (in), 8 VCC (power)

## SY100ELT23ZG
designator D?  PartNumber: SY100ELT23ZG
PECL-to-TTL; Manufacturer: Microchip Technology; ValueManufacturerPartNumber: IC PECL-to-TTL translator, Unidirectional, 4.5...5.5V, -40...+85°C, 8-SOIC; Supply: 4.5...5.5V; ChannelType: Unidirectional; HelpURL: https://www.digikey.com/product-detail/en/microchip-technology/SY100ELT23ZG/576-1363-ND/771955; Package: 8-SOIC; ComponentType: IC PECL-to-TTL translator; Temperature: -40...+85°C
footprint 8-SOIC (pitch 1.27 mm)
pins: 1 Q0 (in), 2 ~{Q0} (in), 3 ~{Q1} (in), 4 Q1 (in), 5 GND (power), 6 D1 (out), 7 D0 (out), 8 VCC (power)

## TBU-CA065-300-WH
designator D?  PartNumber: TBU-CA065-300-WH
TBU High-Speed Protector; Manufacturer: Bourns; Isolation: 650; HelpURL: https://www.mouser.ee/datasheet/2/54/TBU_CA-1957496.pdf; Package: 6.5x4; ComponentType: ESD protection; ValueManufacturerPartNumber: =ComponentType+'', '+Isolation+', '+Temperature+', '+Package; Temperature: -40...+125°C
footprint PROTECTOR: TBU-CA (DFN-3)
pins: 1, 2 NU, 3

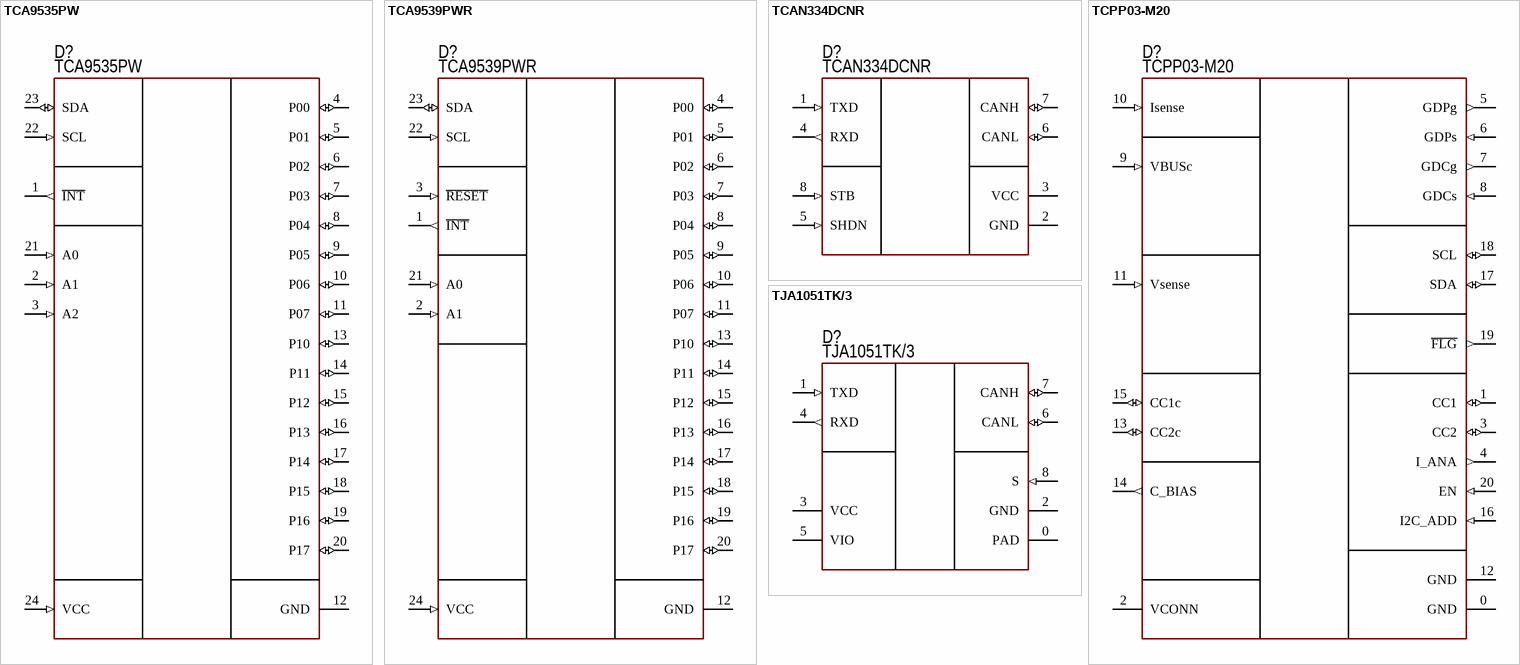
[diagram p5: symbols TCA9535PW to TJA1051TK/3]

## TCA9535PW
designator D?  PartNumber: TCA9535PW
I2C to Parallel Port Expander; Manufacturer: NXP; Supply: 2.3...5.5V; DataRate: 400-kHz; HelpURL: https://www.nxp.com/docs/en/data-sheet/PCA9535_PCA9535C.pdf; Package: TSSOP-24; ComponentType: I2C to Parallel Port Expander; ValueManufacturerPartNumber: =ComponentType+', '+DataRate+', '+TypeDuplex+', '+Supply+', '+Temperature+', '+Package; Temperature: -40...+85°C
footprint 24-TSSOP (pitch 0.65 mm)
pins: 1 ~{INT} (out), 2 A1 (in), 3 A2 (in), 4 P00 (io), 5 P01 (io), 6 P02 (io), 7 P03 (io), 8 P04 (io), 9 P05 (io), 10 P06 (io), 11 P07 (io), 12 GND (power), 13 P10 (io), 14 P11 (io), 15 P12 (io), 16 P13 (io), 17 P14 (io), 18 P15 (io), 19 P16 (io), 20 P17 (io), 21 A0 (in), 22 SCL (in), 23 SDA (io), 24 VCC (in)

## TCA9539PWR
designator D?  PartNumber: TCA9539PWR
I2C to Parallel Port Expander; Manufacturer: Texas Instruments; Supply: 1.65...5.5V; DataRate: 400-kHz; HelpURL: https://datasheet.lcsc.com/szlcsc/1809192236_Texas-Instruments-TCA9539PWR_C131972.pdf; Package: TSSOP-24; ComponentType: I2C to Parallel Port Expander; ValueManufacturerPartNumber: =ComponentType+', '+DataRate+', '+TypeDuplex+', '+Supply+', '+Temperature+', '+Package; Temperature: -40...+85°C
footprint 24-TSSOP (pitch 0.65 mm)
pins: 1 ~{INT} (out), 2 A1 (in), 3 ~{RESET} (in), 4 P00 (io), 5 P01 (io), 6 P02 (io), 7 P03 (io), 8 P04 (io), 9 P05 (io), 10 P06 (io), 11 P07 (io), 12 GND (power), 13 P10 (io), 14 P11 (io), 15 P12 (io), 16 P13 (io), 17 P14 (io), 18 P15 (io), 19 P16 (io), 20 P17 (io), 21 A0 (in), 22 SCL (in), 23 SDA (io), 24 VCC (in)

## TCAN334DCNR
designator D?  PartNumber: TCAN334DCNR
CAN; Manufacturer: Texas Instruments; ValueManufacturerPartNumber: IC CAN transceiver, 1Mbps, Half-duplex, 3...3.6V, -40...+125°C, SOT23-8; Supply: 3...3.6V; DataRate: 1Mbps; TypeDuplex: Half-duplex; HelpURL: https://www.digikey.com/product-detail/en/texas-instruments/TCAN334DCNR/296-47830-1-ND/8133179; Package: SOT23-8; ComponentType: IC CAN transceiver; Temperature: -40...+125°C
footprint SOT23-8 (pitch 0.95 mm)
pins: 1 TXD (in), 2 GND, 3 VCC, 4 RXD (out), 5 SHDN (in), 6 CANL (io), 7 CANH (io), 8 STB (in)

## TCPP03-M20
designator D?  PartNumber: TCPP03-M20
USB-C Power Delivery Dual Role Power; Manufacturer: STMicroelectronics; ValueManufacturerPartNumber: USB C power delivery controller, USB C, 2.7...5.5V, -40...+125°C, 20-QFN; Supply: 2.7...5.5V; HelpURL: https://www.mouser.ee/ProductDetail/STMicroelectronics/TCPP03-M20?qs=DRkmTr78QAQkfZe1yn6WXw%3D%3D; Package: 20-QFN; ComponentType: USB C power delivery controller; Temperature: -40...+125°C; Standard: USB C
footprint 20-QFN (4x4) (4x4 mm, pitch 0.5 mm, power pad)
pins: 0 GND (power), 1 CC1 (io), 2 VCONN (power), 3 CC2 (io), 4 I_ANA (out), 5 GDPg (out), 6 GDPs (in), 7 GDCg (out), 8 GDCs (in), 9 VBUSc (in), 10 Isense (in), 11 Vsense (in), 12 GND (power), 13 CC2c (io), 14 C_BIAS (out), 15 CC1c (io), 16 I2C_ADD (in), 17 SDA (io), 18 SCL (io), 19 ~{FLG} (out), 20 EN (in)

## TJA1051TK/3
designator D?  PartNumber: TJA1051TK/3
CAN; Manufacturer: NXP; ValueManufacturerPartNumber: IC CAN transceiver, 5Mbps, Half-duplex, 4.5...5.5V, -40...+155°C, 8-HVSON; Supply: 4.5...5.5V; DataRate: 5Mbps; TypeDuplex: Half-duplex; HelpURL: https://www.mouser.ee/datasheet/2/302/TJA1051-3083392.pdf; Package: 8-HVSON; ComponentType: IC CAN transceiver; Temperature: -40...+155°C
footprint 8-HVSON (3x3) (3x3 mm, pitch 0.65 mm, power pad)
pins: 0 PAD, 1 TXD (in), 2 GND, 3 VCC, 4 RXD (out), 5 VIO, 6 CANL (io), 7 CANH (io), 8 S (in)

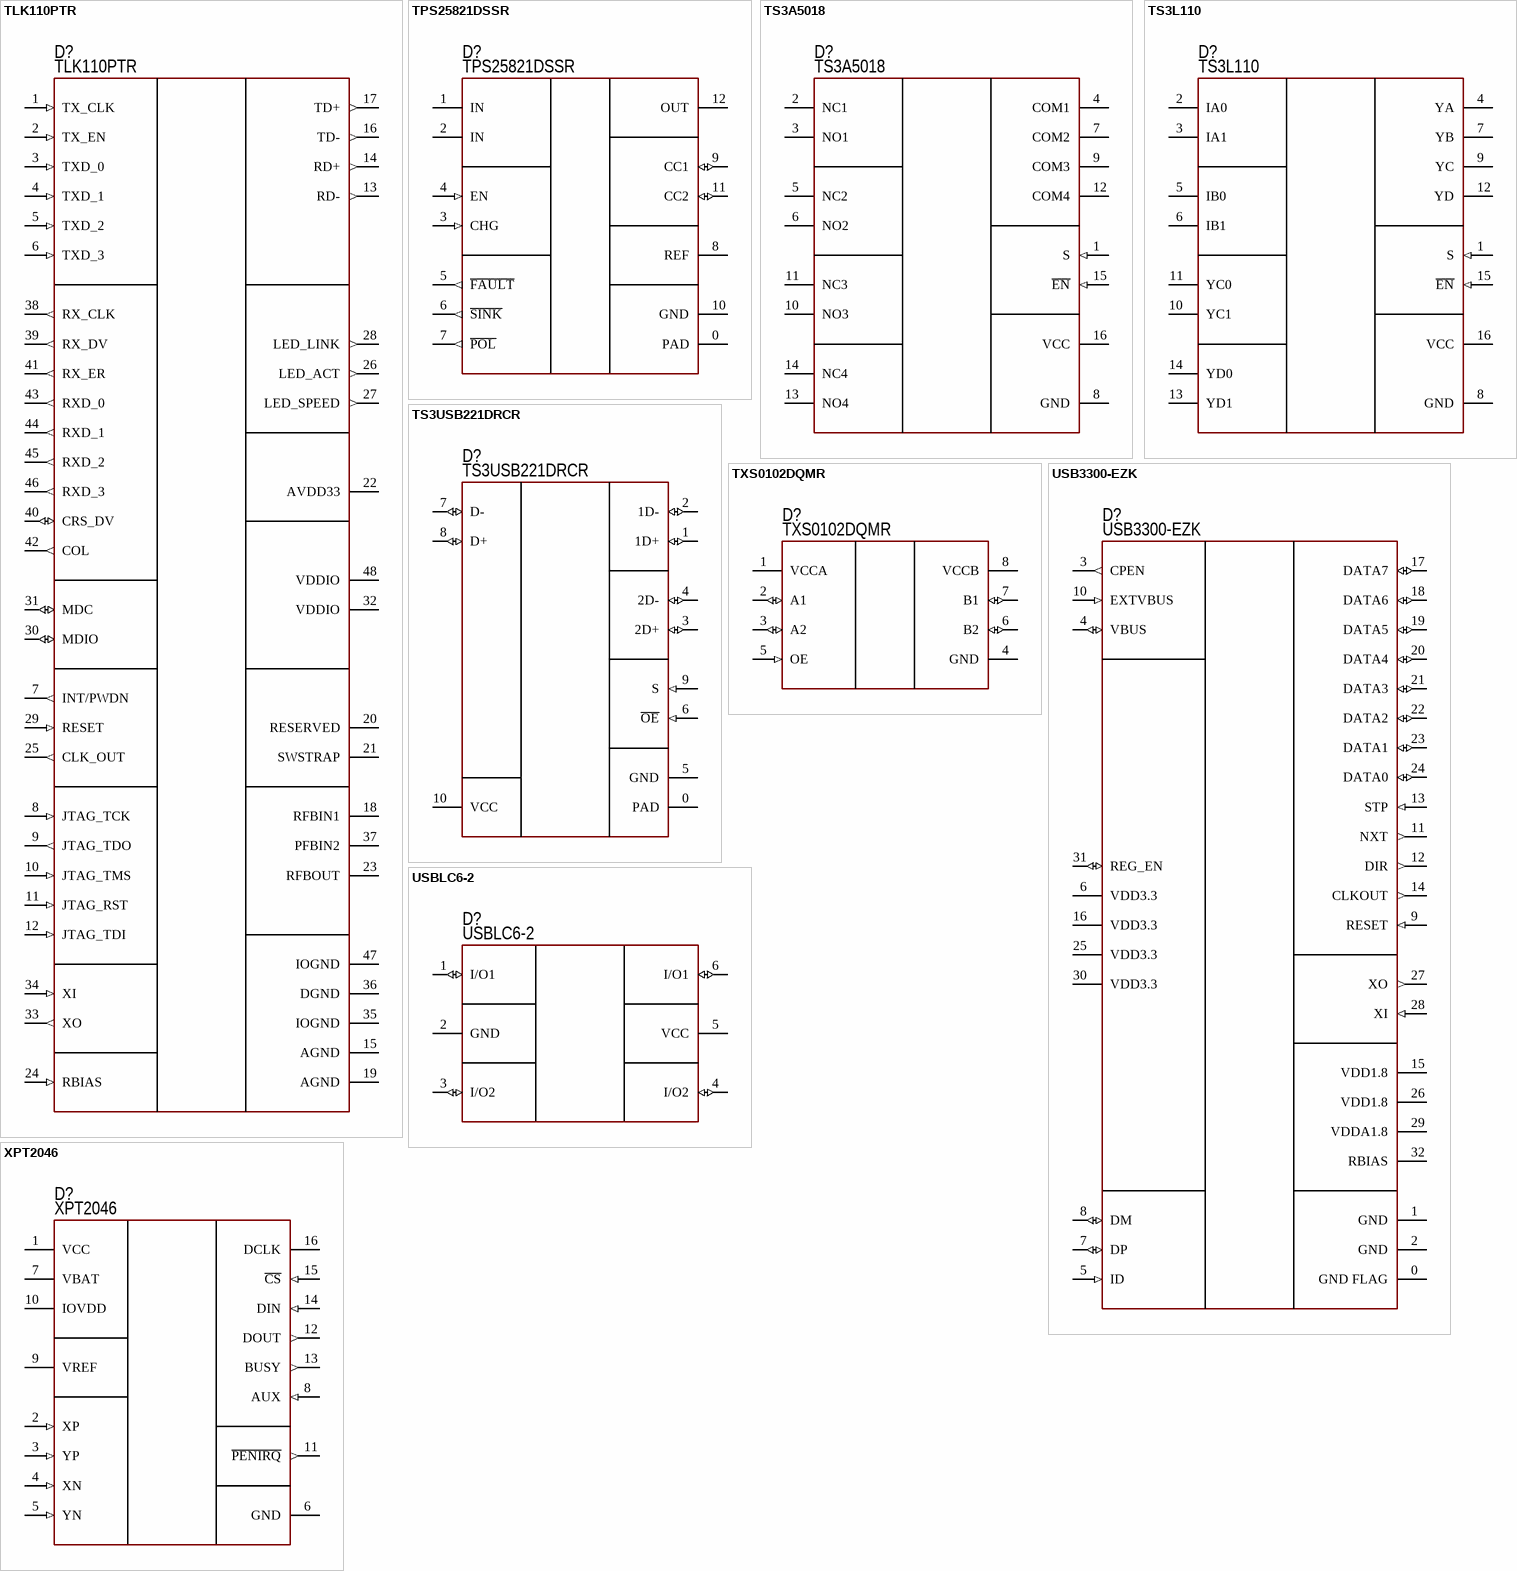
[diagram p6: symbols TLK110PTR to XPT2046]

## TLK110PTR
designator D?  PartNumber: TLK110PTR
Ethernet; Manufacturer: Texas Instruments; ValueManufacturerPartNumber: IC ethernet transceiver, 10/100 Mbps, MII, RMII, 3...3.6V, -40...+85°C, 48-LQFP; Supply: 3...3.6V; DataRate: 10/100 Mbps; Protocol: MII, RMII; HelpURL: https://www.digikey.com/product-detail/en/texas-instruments/TLK110PTR/296-30096-1-ND/2798835; Package: 48-LQFP; ComponentType: IC ethernet transceiver; Temperature: -40...+85°C
footprint 48-LQFP (QFP, 48-Leads, Body 7x7mm, Pitch 0.5mm, IPC Medium Density)
pins: 1 TX_CLK (in), 2 TX_EN (in), 3 TXD_0 (in), 4 TXD_1 (in), 5 TXD_2 (in), 6 TXD_3 (in), 7 INT/PWDN (out), 8 JTAG_TCK (in), 9 JTAG_TDO (out), 10 JTAG_TMS (in), 11 JTAG_RST (in), 12 JTAG_TDI (in), 13 RD- (out), 14 RD+ (out), 15 AGND (power), 16 TD- (out), 17 TD+ (out), 18 RFBIN1 (power), 19 AGND (power), 20 RESERVED, 21 SWSTRAP, 22 AVDD33 (power), 23 RFBOUT (power), 24 RBIAS (in), 25 CLK_OUT (out), 26 LED_ACT (out), 27 LED_SPEED (out), 28 LED_LINK (out), 29 RESET (in), 30 MDIO (io), 31 MDC (io), 32 VDDIO (power), 33 XO (out), 34 XI (in), 35 IOGND (power), 36 DGND (power), 37 PFBIN2 (power), 38 RX_CLK (out), 39 RX_DV (out), 40 CRS_DV (io), 41 RX_ER (out), 42 COL (out), 43 RXD_0 (out), 44 RXD_1 (out), 45 RXD_2 (out), 46 RXD_3 (out), 47 IOGND (power), 48 VDDIO (power)

## TPS25821DSSR
designator D?  PartNumber: TPS25821DSSR
USB-C Source Controller; Manufacturer: Texas Instruments; ValueManufacturerPartNumber: USB-C Source Controller, USB C, 4.5...5.5V, -40...+125°C, 12-WSON; Supply: 4.5...5.5V; HelpURL: https://www.ti.com/lit/ds/symlink/tps25821.pdf?ts=1734853109435&ref_url=https%253A%252F%252Fwww.ti.com%252Finterface%252Fusb%252Ftype-c-and-power-delivery%252Fproducts.html; Package: 12-WSON; ComponentType: USB-C Source Controller; Temperature: -40...+125°C; Standard: USB C
footprint 12-WSON (2x3 mm, pitch 0.5 mm, power pad)
pins: 0 PAD (power), 1 IN (power), 2 IN (power), 3 CHG (in), 4 EN (in), 5 ~{FAULT} (out), 6 ~{SINK} (out), 7 ~{POL} (out), 8 REF, 9 CC1 (io), 10 GND (power), 11 CC2 (io), 12 OUT (power)

## TS3A5018
designator D?  PartNumber: TS3A5018
Quad SPDT Analog 1:2 Multiplexer – Demultiplexer; Manufacturer: Texas Instruments; Supply: 3...5V; HelpURL: https://www.ti.com/lit/ds/symlink/ts3a5018.pdf?ts=1778326912848; Package: TSSOP-16; ComponentType: 1:2 Multiplexer – Demultiplexer; Temperature: -40...+85°C; ValueManufacturerPartNumber: =ComponentType+', '+Standard+', '+Supply+', '+Temperature+', '+Package
footprint 16-TSSOP (pitch 1.27 mm)
pins: 1 S (in), 2 NC1, 3 NO1, 4 COM1, 5 NC2, 6 NO2, 7 COM2, 8 GND (power), 9 COM3, 10 NO3, 11 NC3, 12 COM4, 13 NO4, 14 NC4, 15 ~{EN} (in), 16 VCC (power)

## TS3L110
designator D?  PartNumber: TS3L110
Quad SPDT High-Bandwidth 10/100 Base-T LAN Switch; Manufacturer: Texas Instruments; Supply: 3...5V; HelpURL: https://www.ti.com/lit/ds/symlink/ts3l110.pdf?ts=1778328200783; Package: SSOP-16; ComponentType: LAN Switch; Temperature: -40...+85°C; ValueManufacturerPartNumber: =ComponentType+', '+Standard+', '+Supply+', '+Temperature+', '+Package
footprint 16-SSOP (pitch 0.635 mm)
pins: 1 S (in), 2 IA0, 3 IA1, 4 YA, 5 IB0, 6 IB1, 7 YB, 8 GND (power), 9 YC, 10 YC1, 11 YC0, 12 YD, 13 YD1, 14 YD0, 15 ~{EN} (in), 16 VCC (power)

## TS3USB221DRCR
designator D?  PartNumber: TS3USB221DRCR
High-Speed USB 2.0 (480-Mbps) 1:2 Multiplexer – Demultiplexer; Manufacturer: Texas Instruments; Supply: 2.3...3.6V; DataRate: 480Mbps; HelpURL: https://datasheet.lcsc.com/szlcsc/1811061825_Texas-Instruments-TS3USB221DRCR_C324071.pdf; Package: VSON (10); ComponentType: 1:2 Multiplexer – Demultiplexer; ValueManufacturerPartNumber: =ComponentType+', '+DataRate+', '+TypeDuplex+', '+Supply+', '+Temperature+', '+Package; Temperature: -40...+85°C
footprint 10-VSON (3x3 mm, pitch 0.5 mm, power pad)
pins: 0 PAD (power), 1 1D+ (io), 2 1D- (io), 3 2D+ (io), 4 2D- (io), 5 GND (power), 6 ~{OE} (in), 7 D- (io), 8 D+ (io), 9 S (in), 10 VCC (power)

## TXS0102DQMR
designator D?  PartNumber: TXS0102DQMR
Level shifter; Manufacturer: Texas Instruments; ValueManufacturerPartNumber: IC Level Shifter, Bidirectional, 1.65...5.5V, -40...+85°C, 8-X2SON; Supply: 1.65...5.5V; ChannelType: Bidirectional; HelpURL: https://www.ti.com/lit/ds/symlink/txs0102.pdf?ts=1720975552771&ref_url=https%253A%252F%252Fwww.mouser.ee%252F; Package: 8-X2SON; ComponentType: IC Level Shifter; Temperature: -40...+85°C
footprint 8-X2SON (1.2x1.8mm)
pins: 1 VCCA (power), 2 A1 (io), 3 A2 (io), 4 GND (power), 5 OE (in), 6 B2 (io), 7 B1 (io), 8 VCCB (power)

## USB3300-EZK
designator D?  PartNumber: USB3300-EZK
USB Interface; Manufacturer: Microchip; ValueManufacturerPartNumber: USB Interface IC, 480 Mb/s, ULPI, USB, 3...3.6V, -40...+85°C, QFN-32; Supply: 3...3.6V; DataRate: 480 Mb/s; Protocol: ULPI, USB; HelpURL: https://ru.mouser.com/ProductDetail/Microchip-Technology/USB3300-EZK?qs=sGAEpiMZZMtv%252Bwxsgy%2FhiAlYNAg5Ms%2FkPEcDyuHbNuw%3D; Package: QFN-32; ComponentType: USB Interface IC; Temperature: -40...+85°C
footprint 32-QFN (5x5 mm, pitch 0.5 mm, power pad)
pins: 0 GND FLAG (power), 1 GND (power), 2 GND (power), 3 CPEN (out), 4 VBUS (io), 5 ID (in), 6 VDD3.3 (power), 7 DP (io), 8 DM (io), 9 RESET (in), 10 EXTVBUS (in), 11 NXT (out), 12 DIR (out), 13 STP (in), 14 CLKOUT (out), 15 VDD1.8 (power), 16 VDD3.3 (power), 17 DATA7 (io), 18 DATA6 (io), 19 DATA5 (io), 20 DATA4 (io), 21 DATA3 (io), 22 DATA2 (io), 23 DATA1 (io), 24 DATA0 (io), 25 VDD3.3 (power), 26 VDD1.8 (power), 27 XO (out), 28 XI (in), 29 VDDA1.8 (power), 30 VDD3.3 (power), 31 REG_EN (io), 32 RBIAS

## USBLC6-2
designator D?  PartNumber: USBLC6-2
ESD protection; Manufacturer: STMicroelectronics; Isolation: 8kV; HelpURL: https://www.st.com/resource/en/datasheet/usblc6-2.pdf; Package: SOT23-6L; ComponentType: ESD protection; ValueManufacturerPartNumber: =ComponentType+', '+DataRate+', '+Isolation+', '+Supply+', '+Temperature+', '+Package; Temperature: -40...+125°C
footprint SOT23-6 (pitch 0.95 mm)
pins: 1 I/O1 (io), 2 GND (power), 3 I/O2 (io), 4 I/O2 (io), 5 VCC (power), 6 I/O1 (io)

## XPT2046
designator D?  PartNumber: XPT2046
Touch Screen Controller; Manufacturer: XPT; Supply: 2.7...5.5V; HelpURL: https://lcsc.com/product-detail/Touch-Screen-Controllers_XPT-Shenzhen-XPTEK-Tech-XPT2046_C19076.html; Package: 16-TSSOP; ComponentType: Touch Screen Controller; ValueManufacturerPartNumber: =ComponentType+', '+DataRate+', '+Isolation+', '+Supply+', '+Temperature+', '+Package; Temperature: -40...+85°C
footprint 16-TSSOP (pitch 1.27 mm)
pins: 1 VCC (power), 2 XP (in), 3 YP (in), 4 XN (in), 5 YN (in), 6 GND (power), 7 VBAT (power), 8 AUX (in), 9 VREF, 10 IOVDD (power), 11 ~{PENIRQ} (out), 12 DOUT (out), 13 BUSY (out), 14 DIN (in), 15 ~{CS} (in), 16 DCLK